# Altium schematic symbol library SCH - DRIVER - TI UCC28C5x-Q1.SCHLIB: 1 symbol
Pins are listed as number, name and electrical type; pins without a type are passive.

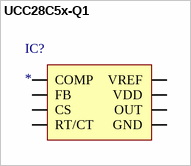
[diagram p0: symbol UCC28C5x-Q1]

## UCC28C5x-Q1
designator IC?
pins: 1 COMP, 2 FB, 3 CS, 4 RT/CT, 5 GND, 6 OUT, 7 VDD, 8 VREF